# Altium schematic symbol library 2017-10-25_16-50-50.SchLib: 1 symbol
Pins are listed as number, name and electrical type; pins without a type are passive.

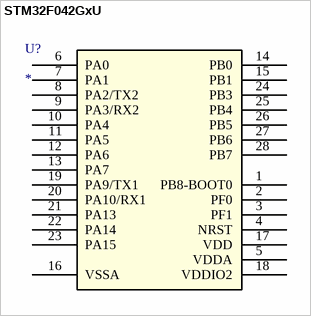
[diagram p0: symbol STM32F042GxU]

## STM32F042GxU
designator U?
Imported; Manufacturer_Part_Number: stm32f042gxu; Vendor: STMicroelectronics; C: Copyright (C) 2016 Accelerated Designs. All rights reserved; Copyright: Copyright (C) 2016 Accelerated Designs. All rights reserved; Value: Value; Type: Type; RefDes: RefDes
footprint UFQFPN28-4x4mm
pins: 1 PB8-BOOT0, 2 PF0, 3 PF1, 4 NRST, 5 VDDA (power), 6 PA0, 7 PA1, 8 PA2/TX2, 9 PA3/RX2, 10 PA4, 11 PA5, 12 PA6, 13 PA7, 14 PB0, 15 PB1, 16 VSSA (power), 17 VDD (power), 18 VDDIO2 (power), 19 PA9/TX1, 20 PA10/RX1, 21 PA13, 22 PA14, 23 PA15, 24 PB3, 25 PB4, 26 PB5, 27 PB6, 28 PB7